# Altium footprint library Displays.PcbLib: 5 footprints
Each footprint in its own frame and in the unit in brackets; x right, y up, seen from the top. Pads: shape width x height; smd on the part's side, far side on the other; paste and mask are expansions set on the pad; w line width, h text height; cw(c..) or ccw(c..) is an arc to the next point about the centre after c.
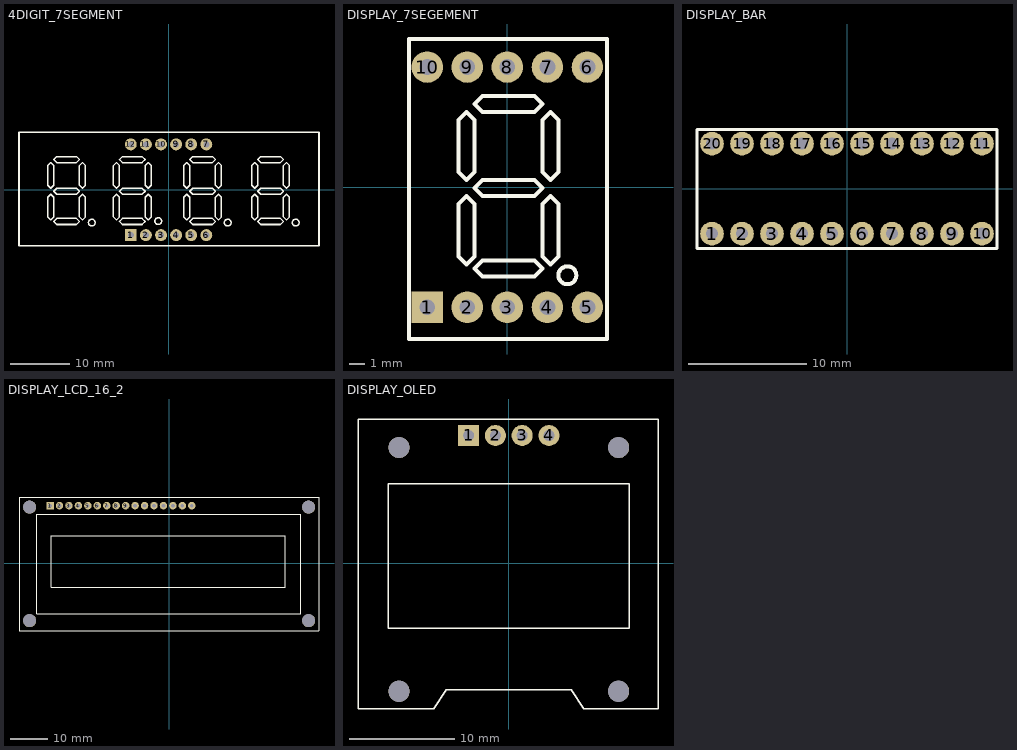
[diagram p0: the footprints below, top view; thin cyan lines are the x and y axes]

## 4DIGIT_7SEGMENT [mm]
pads (12):
  rect 2x2 hole 1: 1(-6.35,-7.62)
  round 2 hole 1: 2(-3.81,-7.62) 3(-1.27,-7.62) 4(1.27,-7.62) 5(3.81,-7.62) 6(6.35,-7.62) 7(6.35,7.62) 8(3.81,7.62) 9(1.27,7.62) 10(-1.27,7.62) 11(-3.81,7.62) 12(-6.35,7.62)
Top Overlay:
  drawing of 176 lines, arcs and shapes, not listed
3D body "4-digit-7segment-display.step": height 8, standoff -10, extent -25.18,-9.438 25.22,9.562

## DISPLAY_7SEGEMENT [mm]
pads (10):
  rect 2x2 hole 1: 1(-5.08,-7.62)
  round 2 hole 1: 2(-2.54,-7.62) 3(0,-7.62) 4(2.54,-7.62) 5(5.08,-7.62) 6(5.08,7.62) 7(2.54,7.62) 8(0,7.62) 9(-2.54,7.62) 10(-5.08,7.62)
Top Overlay:
  circle w0.254: c3.81,-5.588 r0.568
  lines w0.254: -6.223,-9.631 -6.223,9.398 6.306,9.398 6.306,-9.631 -6.223,-9.631 ; -3.111,-4.384 -2.603,-4.892 -2.095,-4.384 -2.095,-1.082 -2.603,-0.574 -3.111,-1.082 -3.111,-4.384 ; -3.111,0.95 -2.603,0.442 -2.095,0.95 -2.095,4.252 -2.603,4.76 -3.111,4.252 -3.111,0.95 ; -2.095,-5.146 -1.587,-5.654 1.715,-5.654 2.223,-5.146 1.715,-4.638 -1.587,-4.638 -2.095,-5.146 ; -2.095,-0.066 -1.587,-0.574 1.715,-0.574 2.223,-0.066 1.715,0.442 -1.587,0.442 -2.095,-0.066 ; -2.095,5.268 -1.587,4.76 1.715,4.76 2.223,5.268 1.715,5.776 -1.587,5.776 -2.095,5.268 ; 2.223,-4.384 2.731,-4.892 3.239,-4.384 3.239,-1.082 2.731,-0.574 2.223,-1.082 2.223,-4.384 ; 2.223,0.95 2.731,0.442 3.239,0.95 3.239,4.252 2.731,4.76 2.223,4.252 2.223,0.95
3D body "7 segment display (8.).STEP": height 8.1, standoff -1.73, extent -6.217,-9.606 6.383,9.394

## DISPLAY_BAR [mm]
pads (20):
  round 2 hole 1: 1(-11.43,-3.81) 2(-8.89,-3.81) 3(-6.35,-3.81) 4(-3.81,-3.81) 5(-1.27,-3.81) 6(1.27,-3.81) 7(3.81,-3.81) 8(6.35,-3.81) 9(8.89,-3.81) 10(11.43,-3.81) 11(11.43,3.81) 12(8.89,3.81) 13(6.35,3.81) 14(3.81,3.81) 15(1.27,3.81) 16(-1.27,3.81) 17(-3.81,3.81) 18(-6.35,3.81) 19(-8.89,3.81) 20(-11.43,3.81)
Top Overlay:
  lines w0.254: -12.7,-5.08 -12.7,5.02 12.7,5.02 12.7,-5.08 -12.7,-5.08
3D body "LED bar.STEP": height 8, standoff -4.2, extent -12.662,-5.087 12.738,5.073

## DISPLAY_LCD_16_2 [mm]
pads (20):
  rect 2x2 hole 1: 1(-31.999,15.451)
  round 2 hole 1: 2(-29.459,15.451) 3(-26.919,15.451) 4(-24.379,15.451) 5(-21.839,15.451) 6(-19.299,15.451) 7(-16.759,15.451) 8(-14.219,15.451) 9(-11.679,15.451) 10(-9.139,15.451) 11(-6.599,15.451) 12(-4.059,15.451) 13(-1.519,15.451) 14(1.021,15.451) 15(3.561,15.451) 16(6.101,15.451)
  round 3.5 hole 3.5 unplated: ""(-37.5,-15.451) ""(-37.5,15.05) ""(37.5,-15.451) ""(37.5,15.05)
Top Overlay:
  lines w0.254: -40.349,-18.199 40.296,-18.199 40.296,17.742 -40.349,17.742 -40.349,-18.199 ; -35.555,-13.635 35.445,-13.635 35.445,13.165 -35.555,13.165 -35.555,-13.635 ; -31.745,-6.478 31.255,-6.478 31.255,7.323 -31.745,7.323 -31.745,-6.478
3D body "DISPLAY_LCD_16_2.STEP": height 12, standoff -10.8, extent -40.349,-18.258 40.35,17.742

## DISPLAY_OLED [mm]
pads (8):
  rect 2x2 hole 1: 1(-3.81,12.128)
  round 2 hole 1: 2(-1.27,12.128) 3(1.27,12.128) 4(3.81,12.128)
  round 2 hole 2 unplated: ""(-10.414,-12.128) ""(-10.414,10.986) ""(10.414,-12.128) ""(10.414,10.986)
Top Overlay:
  lines w0.127: -14.301,-13.776 -14.301,13.656 14.147,13.656 14.147,-13.776 7.11,-13.776 5.924,-11.998 -5.924,-11.998 -7.11,-13.776 -14.301,-13.776 ; -11.43,-6.159 -11.43,7.556 11.43,7.556 11.43,-6.159 -11.43,-6.159
3D body "DISPLAY_OLED.stp": height 5.7, standoff -5.3, extent -14.277,-13.76 14.123,13.64